# Altium schematic symbol library SCH - MEMORY - MICROCHIP EEPROM I2C 8PIN.SCHLIB: 1 symbol
Pins are listed as number, name and electrical type; pins without a type are passive.

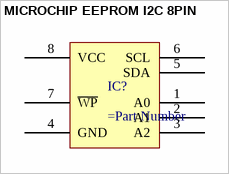
[diagram p0: symbol MICROCHIP EEPROM I2C 8PIN]

## MICROCHIP EEPROM I2C 8PIN
designator IC?
pins: 1 A0, 2 A1, 3 A2, 4 GND, 5 SDA, 6 SCL, 7 ~{WP}, 8 VCC